# Altium integrated library National Semiconductor LDO.IntLib: 2675 symbols (part 10 of 65)
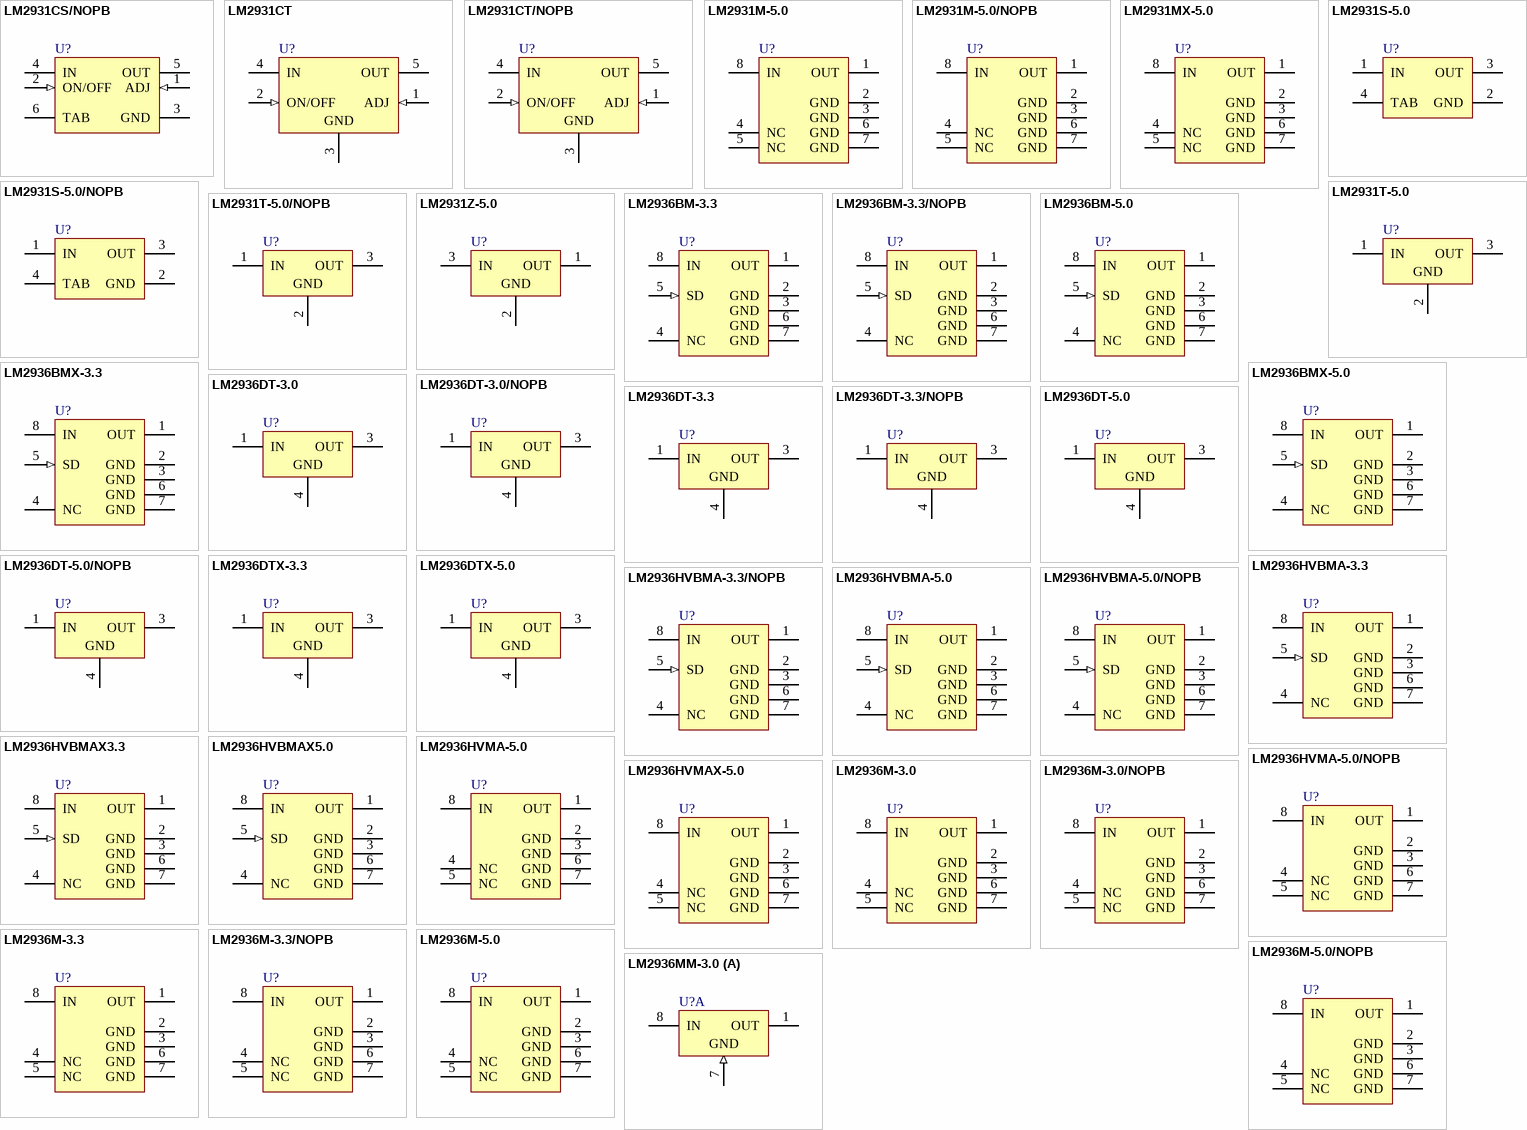
[diagram p76: symbols LM2931CS/NOPB to LM2936MM-3.0]

## LM2936M-3.0
designator U?
Ultra-Low Quiescent Current LDO Voltage Regulator, 8-pin Narrow SOIC; PartNumber: LM2936M-3.0; Manufacturer: National Semiconductor; PackageTopMarking: NSZXTT*LM293*6M-3; PowerWise: N; CompType: LDO IC; High-Reliability: Y; DatasheetVersion: Oct-2006; PackageVersion: revM, May-2009; PackageReference: M08A; PackageDescription: SOIC Narrow, 4.9 x 3.9 x 1.45mm, 8 Lead, 1.27mm Pitch; RoHS: N; PinCount: 8; Code_JEDEC: MS-012-AA; Code_IPC: SOIC127P600-8; ComponentLink1Description: Manufacturer URL; ComponentLink1URL: http://www.national.com/; ComponentLink2Description: LM2936 Datasheet; ComponentLink2URL: http://www.national.com/ds/LM/LM2936.pdf; ComponentLink3Description: LM2936 Web Page; ComponentLink3URL: http://www.national.com/pf/LM/LM2936.html; ComponentLink4Description: M08A Package Page; ComponentLink4URL: http://www.national.com/packaging/folders/m08a.html
footprint M08A_N (SOIC, 8-Leads, Body 4.9x3.9mm, Pitch 1.27mm, IPC Medium Density)
footprint M08A_L (SOIC, 8-Leads, Body 4.9x3.9mm, Pitch 1.27mm, IPC High Density)
footprint M08A_M (SOIC, 8-Leads, Body 4.9x3.9mm, Pitch 1.27mm, IPC Low Density)
pins: 1 OUT (power), 2 GND (power), 3 GND (power), 4 NC, 5 NC, 6 GND (power), 7 GND (power), 8 IN (power)

## LM2936M-3.0/NOPB
designator U?
Ultra-Low Quiescent Current LDO Voltage Regulator, 8-pin Narrow SOIC, Pb-Free; PartNumber: LM2936M-3.0/NOPB; Manufacturer: National Semiconductor; PackageTopMarking: NSZXTT*LM293*6M-3; PowerWise: N; CompType: LDO IC; High-Reliability: Y; DatasheetVersion: Oct-2006; PackageVersion: revM, May-2009; PackageReference: M08A; PackageDescription: SOIC Narrow, 4.9 x 3.9 x 1.45mm, 8 Lead, 1.27mm Pitch; RoHS: Y; PinCount: 8; Code_JEDEC: MS-012-AA; Code_IPC: SOIC127P600-8; ComponentLink1Description: Manufacturer URL; ComponentLink1URL: http://www.national.com/; ComponentLink2Description: LM2936 Datasheet; ComponentLink2URL: http://www.national.com/ds/LM/LM2936.pdf; ComponentLink3Description: LM2936 Web Page; ComponentLink3URL: http://www.national.com/pf/LM/LM2936.html; ComponentLink4Description: M08A Package Page; ComponentLink4URL: http://www.national.com/packaging/folders/m08a.html
footprint M08A_N (SOIC, 8-Leads, Body 4.9x3.9mm, Pitch 1.27mm, IPC Medium Density)
footprint M08A_L (SOIC, 8-Leads, Body 4.9x3.9mm, Pitch 1.27mm, IPC High Density)
footprint M08A_M (SOIC, 8-Leads, Body 4.9x3.9mm, Pitch 1.27mm, IPC Low Density)
pins: 1 OUT (power), 2 GND (power), 3 GND (power), 4 NC, 5 NC, 6 GND (power), 7 GND (power), 8 IN (power)

## LM2936M-3.3
designator U?
Ultra-Low Quiescent Current LDO Voltage Regulator, 8-pin Narrow SOIC; PartNumber: LM2936M-3.3; Manufacturer: National Semiconductor; PackageTopMarking: NSZXTT*LM293*6-3.3; PowerWise: N; CompType: LDO IC; High-Reliability: Y; DatasheetVersion: Oct-2006; PackageVersion: revM, May-2009; PackageReference: M08A; PackageDescription: SOIC Narrow, 4.9 x 3.9 x 1.45mm, 8 Lead, 1.27mm Pitch; RoHS: N; PinCount: 8; Code_JEDEC: MS-012-AA; Code_IPC: SOIC127P600-8; ComponentLink1Description: Manufacturer URL; ComponentLink1URL: http://www.national.com/; ComponentLink2Description: LM2936 Datasheet; ComponentLink2URL: http://www.national.com/ds/LM/LM2936.pdf; ComponentLink3Description: LM2936 Web Page; ComponentLink3URL: http://www.national.com/pf/LM/LM2936.html; ComponentLink4Description: M08A Package Page; ComponentLink4URL: http://www.national.com/packaging/folders/m08a.html
footprint M08A_N (SOIC, 8-Leads, Body 4.9x3.9mm, Pitch 1.27mm, IPC Medium Density)
footprint M08A_L (SOIC, 8-Leads, Body 4.9x3.9mm, Pitch 1.27mm, IPC High Density)
footprint M08A_M (SOIC, 8-Leads, Body 4.9x3.9mm, Pitch 1.27mm, IPC Low Density)
pins: 1 OUT (power), 2 GND (power), 3 GND (power), 4 NC, 5 NC, 6 GND (power), 7 GND (power), 8 IN (power)

## LM2936M-3.3/NOPB
designator U?
Ultra-Low Quiescent Current LDO Voltage Regulator, 8-pin Narrow SOIC, Pb-Free; PartNumber: LM2936M-3.3/NOPB; Manufacturer: National Semiconductor; PackageTopMarking: NSZXTT*LM293*6-3.3; PowerWise: N; CompType: LDO IC; High-Reliability: Y; DatasheetVersion: Oct-2006; PackageVersion: revM, May-2009; PackageReference: M08A; PackageDescription: SOIC Narrow, 4.9 x 3.9 x 1.45mm, 8 Lead, 1.27mm Pitch; RoHS: Y; PinCount: 8; Code_JEDEC: MS-012-AA; Code_IPC: SOIC127P600-8; ComponentLink1Description: Manufacturer URL; ComponentLink1URL: http://www.national.com/; ComponentLink2Description: LM2936 Datasheet; ComponentLink2URL: http://www.national.com/ds/LM/LM2936.pdf; ComponentLink3Description: LM2936 Web Page; ComponentLink3URL: http://www.national.com/pf/LM/LM2936.html; ComponentLink4Description: M08A Package Page; ComponentLink4URL: http://www.national.com/packaging/folders/m08a.html
footprint M08A_N (SOIC, 8-Leads, Body 4.9x3.9mm, Pitch 1.27mm, IPC Medium Density)
footprint M08A_L (SOIC, 8-Leads, Body 4.9x3.9mm, Pitch 1.27mm, IPC High Density)
footprint M08A_M (SOIC, 8-Leads, Body 4.9x3.9mm, Pitch 1.27mm, IPC Low Density)
pins: 1 OUT (power), 2 GND (power), 3 GND (power), 4 NC, 5 NC, 6 GND (power), 7 GND (power), 8 IN (power)

## LM2936M-5.0
designator U?
Ultra-Low Quiescent Current LDO Voltage Regulator, 8-pin Narrow SOIC; PartNumber: LM2936M-5.0; Manufacturer: National Semiconductor; PackageTopMarking: NSZXTT*LM293*6M-5; PowerWise: N; CompType: LDO IC; High-Reliability: Y; DatasheetVersion: Oct-2006; PackageVersion: revM, May-2009; PackageReference: M08A; PackageDescription: SOIC Narrow, 4.9 x 3.9 x 1.45mm, 8 Lead, 1.27mm Pitch; RoHS: N; PinCount: 8; Code_JEDEC: MS-012-AA; Code_IPC: SOIC127P600-8; ComponentLink1Description: Manufacturer URL; ComponentLink1URL: http://www.national.com/; ComponentLink2Description: LM2936 Datasheet; ComponentLink2URL: http://www.national.com/ds/LM/LM2936.pdf; ComponentLink3Description: LM2936 Web Page; ComponentLink3URL: http://www.national.com/pf/LM/LM2936.html; ComponentLink4Description: M08A Package Page; ComponentLink4URL: http://www.national.com/packaging/folders/m08a.html
footprint M08A_N (SOIC, 8-Leads, Body 4.9x3.9mm, Pitch 1.27mm, IPC Medium Density)
footprint M08A_L (SOIC, 8-Leads, Body 4.9x3.9mm, Pitch 1.27mm, IPC High Density)
footprint M08A_M (SOIC, 8-Leads, Body 4.9x3.9mm, Pitch 1.27mm, IPC Low Density)
pins: 1 OUT (power), 2 GND (power), 3 GND (power), 4 NC, 5 NC, 6 GND (power), 7 GND (power), 8 IN (power)

## LM2936M-5.0/NOPB
designator U?
Ultra-Low Quiescent Current LDO Voltage Regulator, 8-pin Narrow SOIC, Pb-Free; PartNumber: LM2936M-5.0/NOPB; Manufacturer: National Semiconductor; PackageTopMarking: NSZXTT*LM293*6M-5; PowerWise: N; CompType: LDO IC; High-Reliability: Y; DatasheetVersion: Oct-2006; PackageVersion: revM, May-2009; PackageReference: M08A; PackageDescription: SOIC Narrow, 4.9 x 3.9 x 1.45mm, 8 Lead, 1.27mm Pitch; RoHS: Y; PinCount: 8; Code_JEDEC: MS-012-AA; Code_IPC: SOIC127P600-8; ComponentLink1Description: Manufacturer URL; ComponentLink1URL: http://www.national.com/; ComponentLink2Description: LM2936 Datasheet; ComponentLink2URL: http://www.national.com/ds/LM/LM2936.pdf; ComponentLink3Description: LM2936 Web Page; ComponentLink3URL: http://www.national.com/pf/LM/LM2936.html; ComponentLink4Description: M08A Package Page; ComponentLink4URL: http://www.national.com/packaging/folders/m08a.html
footprint M08A_N (SOIC, 8-Leads, Body 4.9x3.9mm, Pitch 1.27mm, IPC Medium Density)
footprint M08A_L (SOIC, 8-Leads, Body 4.9x3.9mm, Pitch 1.27mm, IPC High Density)
footprint M08A_M (SOIC, 8-Leads, Body 4.9x3.9mm, Pitch 1.27mm, IPC Low Density)
pins: 1 OUT (power), 2 GND (power), 3 GND (power), 4 NC, 5 NC, 6 GND (power), 7 GND (power), 8 IN (power)

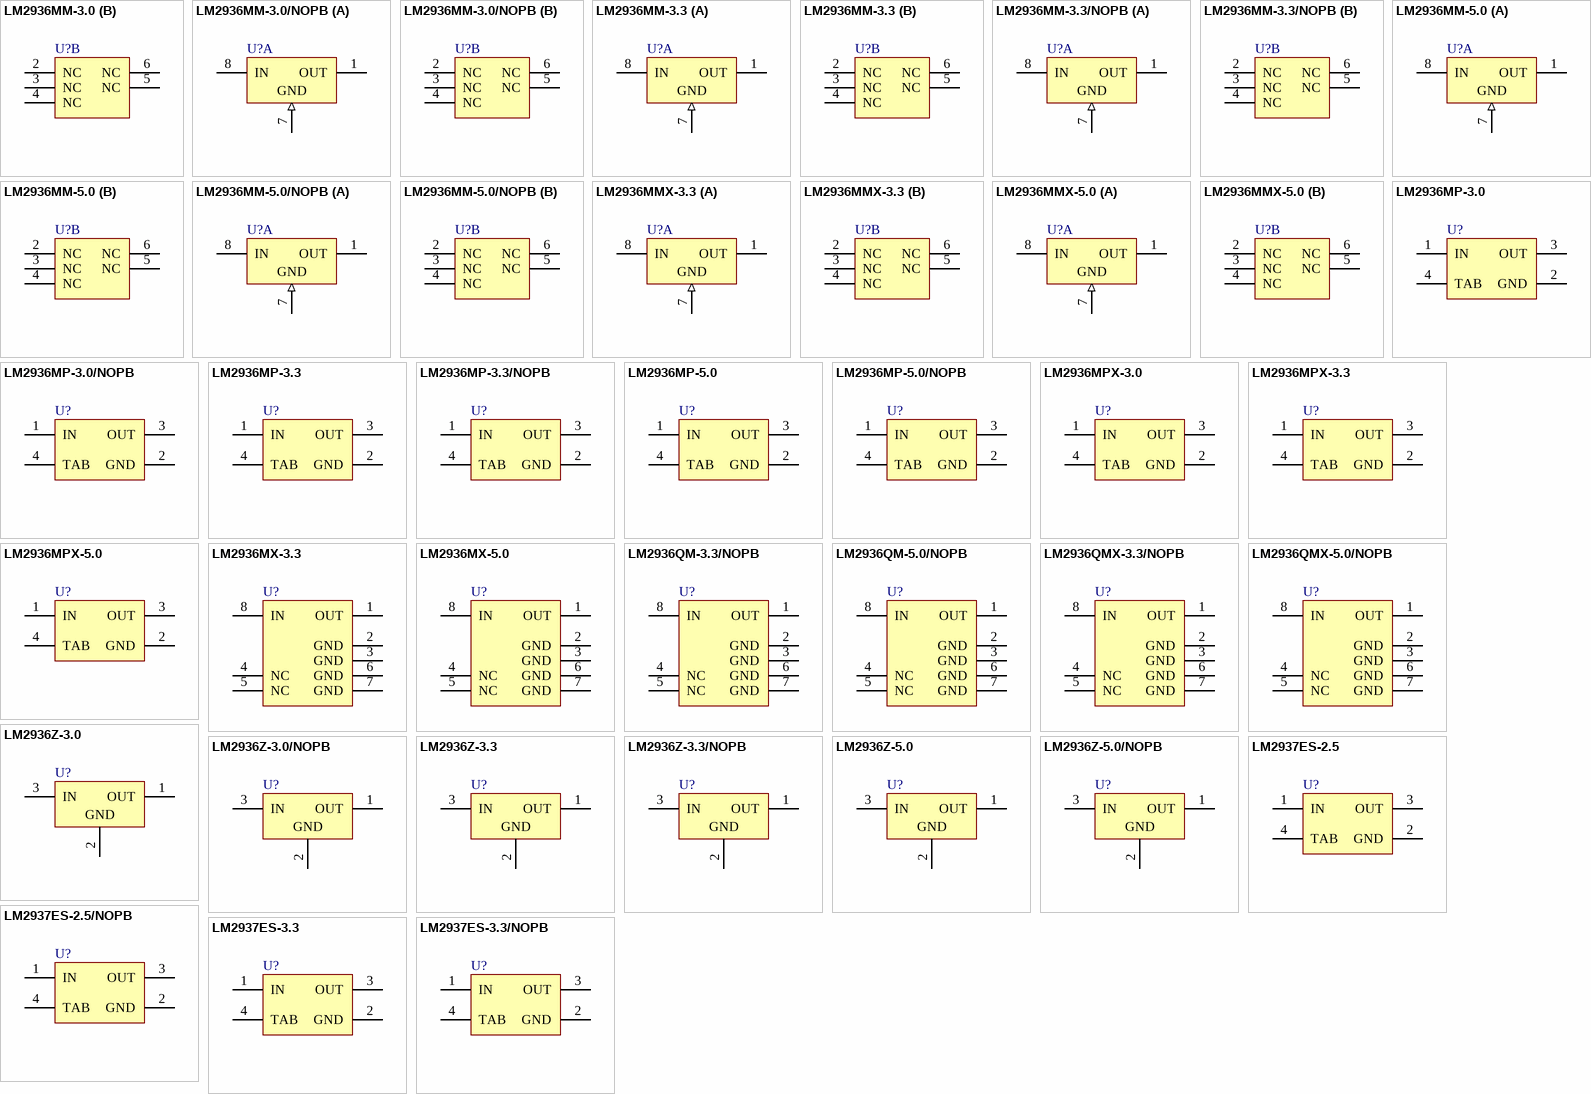
[diagram p10: symbols LM2936MM-3.0 to LM2937ES-3.3/NOPB]

## LM2936MM-3.0
designator U?
Ultra-Low Quiescent Current LDO Voltage Regulator, 8-pin Mini SOIC; PartNumber: LM2936MM-3.0; Manufacturer: National Semiconductor; PackageTopMarking: ZXTT*KBC; PowerWise: N; CompType: LDO IC; High-Reliability: Y; DatasheetVersion: Oct-2006; PackageVersion: revF, Apr-2008; PackageReference: MUA08A; PackageDescription: MINI SOIC, .118 x .118 x .034in, 8 Lead, .0256in Pitch; RoHS: N; PinCount: 8; Code_JEDEC: MO-187-AA; ComponentLink1Description: Manufacturer URL; ComponentLink1URL: http://www.national.com/; ComponentLink2Description: LM2936 Datasheet; ComponentLink2URL: http://www.national.com/ds/LM/LM2936.pdf; ComponentLink3Description: LM2936 Web Page; ComponentLink3URL: http://www.national.com/pf/LM/LM2936.html; ComponentLink4Description: MUA08A Package Page; ComponentLink4URL: http://www.national.com/packaging/folders/mua08a.html
footprint MUA08A_N (TSOP, 8-Leads, Body 3x3mm, Pitch 0.65mm, IPC Medium Density)
footprint MUA08A_L (TSOP, 8-Leads, Body 3x3mm, Pitch 0.65mm, IPC High Density)
footprint MUA08A_M (TSOP, 8-Leads, Body 3x3mm, Pitch 0.65mm, IPC Low Density)
part A pins: 1 OUT (power), 7 ADJ (in), 8 IN (power)
part B pins: 2 NC, 3 NC, 4 NC, 5 NC, 6 NC
part A text: GND

## LM2936MM-3.0/NOPB
designator U?
Ultra-Low Quiescent Current LDO Voltage Regulator, 8-pin Mini SOIC, Pb-Free; PartNumber: LM2936MM-3.0/NOPB; Manufacturer: National Semiconductor; PackageTopMarking: ZXTT*KBC; PowerWise: N; CompType: LDO IC; High-Reliability: Y; DatasheetVersion: Oct-2006; PackageVersion: revF, Apr-2008; PackageReference: MUA08A; PackageDescription: MINI SOIC, .118 x .118 x .034in, 8 Lead, .0256in Pitch; RoHS: Y; PinCount: 8; Code_JEDEC: MO-187-AA; ComponentLink1Description: Manufacturer URL; ComponentLink1URL: http://www.national.com/; ComponentLink2Description: LM2936 Datasheet; ComponentLink2URL: http://www.national.com/ds/LM/LM2936.pdf; ComponentLink3Description: LM2936 Web Page; ComponentLink3URL: http://www.national.com/pf/LM/LM2936.html; ComponentLink4Description: MUA08A Package Page; ComponentLink4URL: http://www.national.com/packaging/folders/mua08a.html
footprint MUA08A_N (TSOP, 8-Leads, Body 3x3mm, Pitch 0.65mm, IPC Medium Density)
footprint MUA08A_L (TSOP, 8-Leads, Body 3x3mm, Pitch 0.65mm, IPC High Density)
footprint MUA08A_M (TSOP, 8-Leads, Body 3x3mm, Pitch 0.65mm, IPC Low Density)
part A pins: 1 OUT (power), 7 ADJ (in), 8 IN (power)
part B pins: 2 NC, 3 NC, 4 NC, 5 NC, 6 NC
part A text: GND

## LM2936MM-3.3
designator U?
Ultra-Low Quiescent Current LDO Voltage Regulator, 8-pin Mini SOIC; PartNumber: LM2936MM-3.3; Manufacturer: National Semiconductor; PackageTopMarking: ZXTT*KBB; PowerWise: N; CompType: LDO IC; High-Reliability: Y; DatasheetVersion: Oct-2006; PackageVersion: revF, Apr-2008; PackageReference: MUA08A; PackageDescription: MINI SOIC, .118 x .118 x .034in, 8 Lead, .0256in Pitch; RoHS: N; PinCount: 8; Code_JEDEC: MO-187-AA; ComponentLink1Description: Manufacturer URL; ComponentLink1URL: http://www.national.com/; ComponentLink2Description: LM2936 Datasheet; ComponentLink2URL: http://www.national.com/ds/LM/LM2936.pdf; ComponentLink3Description: LM2936 Web Page; ComponentLink3URL: http://www.national.com/pf/LM/LM2936.html; ComponentLink4Description: MUA08A Package Page; ComponentLink4URL: http://www.national.com/packaging/folders/mua08a.html
footprint MUA08A_N (TSOP, 8-Leads, Body 3x3mm, Pitch 0.65mm, IPC Medium Density)
footprint MUA08A_L (TSOP, 8-Leads, Body 3x3mm, Pitch 0.65mm, IPC High Density)
footprint MUA08A_M (TSOP, 8-Leads, Body 3x3mm, Pitch 0.65mm, IPC Low Density)
part A pins: 1 OUT (power), 7 ADJ (in), 8 IN (power)
part B pins: 2 NC, 3 NC, 4 NC, 5 NC, 6 NC
part A text: GND

## LM2936MM-3.3/NOPB
designator U?
Ultra-Low Quiescent Current LDO Voltage Regulator, 8-pin Mini SOIC, Pb-Free; PartNumber: LM2936MM-3.3/NOPB; Manufacturer: National Semiconductor; PackageTopMarking: ZXTT*KBB; PowerWise: N; CompType: LDO IC; High-Reliability: Y; DatasheetVersion: Oct-2006; PackageVersion: revF, Apr-2008; PackageReference: MUA08A; PackageDescription: MINI SOIC, .118 x .118 x .034in, 8 Lead, .0256in Pitch; RoHS: Y; PinCount: 8; Code_JEDEC: MO-187-AA; ComponentLink1Description: Manufacturer URL; ComponentLink1URL: http://www.national.com/; ComponentLink2Description: LM2936 Datasheet; ComponentLink2URL: http://www.national.com/ds/LM/LM2936.pdf; ComponentLink3Description: LM2936 Web Page; ComponentLink3URL: http://www.national.com/pf/LM/LM2936.html; ComponentLink4Description: MUA08A Package Page; ComponentLink4URL: http://www.national.com/packaging/folders/mua08a.html
footprint MUA08A_N (TSOP, 8-Leads, Body 3x3mm, Pitch 0.65mm, IPC Medium Density)
footprint MUA08A_L (TSOP, 8-Leads, Body 3x3mm, Pitch 0.65mm, IPC High Density)
footprint MUA08A_M (TSOP, 8-Leads, Body 3x3mm, Pitch 0.65mm, IPC Low Density)
part A pins: 1 OUT (power), 7 ADJ (in), 8 IN (power)
part B pins: 2 NC, 3 NC, 4 NC, 5 NC, 6 NC
part A text: GND

## LM2936MM-5.0
designator U?
Ultra-Low Quiescent Current LDO Voltage Regulator, 8-pin Mini SOIC; PartNumber: LM2936MM-5.0; Manufacturer: National Semiconductor; PackageTopMarking: ZXTT*KBA; PowerWise: N; CompType: LDO IC; High-Reliability: Y; DatasheetVersion: Oct-2006; PackageVersion: revF, Apr-2008; PackageReference: MUA08A; PackageDescription: MINI SOIC, .118 x .118 x .034in, 8 Lead, .0256in Pitch; RoHS: N; PinCount: 8; Code_JEDEC: MO-187-AA; ComponentLink1Description: Manufacturer URL; ComponentLink1URL: http://www.national.com/; ComponentLink2Description: LM2936 Datasheet; ComponentLink2URL: http://www.national.com/ds/LM/LM2936.pdf; ComponentLink3Description: LM2936 Web Page; ComponentLink3URL: http://www.national.com/pf/LM/LM2936.html; ComponentLink4Description: MUA08A Package Page; ComponentLink4URL: http://www.national.com/packaging/folders/mua08a.html
footprint MUA08A_N (TSOP, 8-Leads, Body 3x3mm, Pitch 0.65mm, IPC Medium Density)
footprint MUA08A_L (TSOP, 8-Leads, Body 3x3mm, Pitch 0.65mm, IPC High Density)
footprint MUA08A_M (TSOP, 8-Leads, Body 3x3mm, Pitch 0.65mm, IPC Low Density)
part A pins: 1 OUT (power), 7 ADJ (in), 8 IN (power)
part B pins: 2 NC, 3 NC, 4 NC, 5 NC, 6 NC
part A text: GND

## LM2936MM-5.0/NOPB
designator U?
Ultra-Low Quiescent Current LDO Voltage Regulator, 8-pin Mini SOIC, Pb-Free; PartNumber: LM2936MM-5.0/NOPB; Manufacturer: National Semiconductor; PackageTopMarking: ZXTT*KBA; PowerWise: N; CompType: LDO IC; High-Reliability: Y; DatasheetVersion: Oct-2006; PackageVersion: revF, Apr-2008; PackageReference: MUA08A; PackageDescription: MINI SOIC, .118 x .118 x .034in, 8 Lead, .0256in Pitch; RoHS: Y; PinCount: 8; Code_JEDEC: MO-187-AA; ComponentLink1Description: Manufacturer URL; ComponentLink1URL: http://www.national.com/; ComponentLink2Description: LM2936 Datasheet; ComponentLink2URL: http://www.national.com/ds/LM/LM2936.pdf; ComponentLink3Description: LM2936 Web Page; ComponentLink3URL: http://www.national.com/pf/LM/LM2936.html; ComponentLink4Description: MUA08A Package Page; ComponentLink4URL: http://www.national.com/packaging/folders/mua08a.html
footprint MUA08A_N (TSOP, 8-Leads, Body 3x3mm, Pitch 0.65mm, IPC Medium Density)
footprint MUA08A_L (TSOP, 8-Leads, Body 3x3mm, Pitch 0.65mm, IPC High Density)
footprint MUA08A_M (TSOP, 8-Leads, Body 3x3mm, Pitch 0.65mm, IPC Low Density)
part A pins: 1 OUT (power), 7 ADJ (in), 8 IN (power)
part B pins: 2 NC, 3 NC, 4 NC, 5 NC, 6 NC
part A text: GND

## LM2936MMX-3.3
designator U?
Ultra-Low Quiescent Current LDO Voltage Regulator, 8-pin Mini SOIC; PartNumber: LM2936MMX-3.3; Manufacturer: National Semiconductor; PackageTopMarking: ZXTT*KBB; PowerWise: N; CompType: LDO IC; High-Reliability: Y; DatasheetVersion: Oct-2006; PackageVersion: revF, Apr-2008; PackageReference: MUA08A; PackageDescription: MINI SOIC, .118 x .118 x .034in, 8 Lead, .0256in Pitch; RoHS: N; PinCount: 8; Code_JEDEC: MO-187-AA; ComponentLink1Description: Manufacturer URL; ComponentLink1URL: http://www.national.com/; ComponentLink2Description: LM2936 Datasheet; ComponentLink2URL: http://www.national.com/ds/LM/LM2936.pdf; ComponentLink3Description: LM2936 Web Page; ComponentLink3URL: http://www.national.com/pf/LM/LM2936.html; ComponentLink4Description: MUA08A Package Page; ComponentLink4URL: http://www.national.com/packaging/folders/mua08a.html
footprint MUA08A_N (TSOP, 8-Leads, Body 3x3mm, Pitch 0.65mm, IPC Medium Density)
footprint MUA08A_L (TSOP, 8-Leads, Body 3x3mm, Pitch 0.65mm, IPC High Density)
footprint MUA08A_M (TSOP, 8-Leads, Body 3x3mm, Pitch 0.65mm, IPC Low Density)
part A pins: 1 OUT (power), 7 ADJ (in), 8 IN (power)
part B pins: 2 NC, 3 NC, 4 NC, 5 NC, 6 NC
part A text: GND

## LM2936MMX-5.0
designator U?
Ultra-Low Quiescent Current LDO Voltage Regulator, 8-pin Mini SOIC; PartNumber: LM2936MMX-5.0; Manufacturer: National Semiconductor; PackageTopMarking: ZXTT*KBA; PowerWise: N; CompType: LDO IC; High-Reliability: Y; DatasheetVersion: Oct-2006; PackageVersion: revF, Apr-2008; PackageReference: MUA08A; PackageDescription: MINI SOIC, .118 x .118 x .034in, 8 Lead, .0256in Pitch; RoHS: N; PinCount: 8; Code_JEDEC: MO-187-AA; ComponentLink1Description: Manufacturer URL; ComponentLink1URL: http://www.national.com/; ComponentLink2Description: LM2936 Datasheet; ComponentLink2URL: http://www.national.com/ds/LM/LM2936.pdf; ComponentLink3Description: LM2936 Web Page; ComponentLink3URL: http://www.national.com/pf/LM/LM2936.html; ComponentLink4Description: MUA08A Package Page; ComponentLink4URL: http://www.national.com/packaging/folders/mua08a.html
footprint MUA08A_N (TSOP, 8-Leads, Body 3x3mm, Pitch 0.65mm, IPC Medium Density)
footprint MUA08A_L (TSOP, 8-Leads, Body 3x3mm, Pitch 0.65mm, IPC High Density)
footprint MUA08A_M (TSOP, 8-Leads, Body 3x3mm, Pitch 0.65mm, IPC Low Density)
part A pins: 1 OUT (power), 7 ADJ (in), 8 IN (power)
part B pins: 2 NC, 3 NC, 4 NC, 5 NC, 6 NC
part A text: GND

## LM2936MP-3.0
designator U?
Ultra-Low Quiescent Current LDO Voltage Regulator, 4-pin SOT-223; PartNumber: LM2936MP-3.0; Manufacturer: National Semiconductor; PackageTopMarking: XYTT*KACA; PowerWise: N; CompType: LDO IC; High-Reliability: Y; DatasheetVersion: Oct-2006; PackageVersion: revB, Apr-2003; PackageReference: MP04A; PackageDescription: Molded SOT-223, 6.50 x 3.56 x 1.6mm Body, 4 Lead, 2.3mm Pitch; RoHS: N; PinCount: 4; Code_JEDEC: TO-261-AA; Code_IPC: SOT223-4; ComponentLink1Description: Manufacturer URL; ComponentLink1URL: http://www.national.com/; ComponentLink2Description: LM2936 Datasheet; ComponentLink2URL: http://www.national.com/ds/LM/LM2936.pdf; ComponentLink3Description: LM2936 Web Page; ComponentLink3URL: http://www.national.com/pf/LM/LM2936.html; ComponentLink4Description: MP04A Package Page; ComponentLink4URL: http://www.national.com/packaging/folders/mp04a.html
footprint MP04A_N (SOT223, 4-Leads, Body 6.5x3.5mm, Pitch 2.3mm, Lead Span 7mm, IPC Medium Density)
footprint MP04A_L (SOT223, 4-Leads, Body 6.5x3.5mm, Pitch 2.3mm, Lead Span 7mm, IPC High Density)
footprint MP04A_M (SOT223, 4-Leads, Body 6.5x3.5mm, Pitch 2.3mm, Lead Span 7mm, IPC Low Density)
pins: 1 IN (power), 2 GND (power), 3 OUT (power), 4 TAB (power)

## LM2936MP-3.0/NOPB
designator U?
Ultra-Low Quiescent Current LDO Voltage Regulator, 4-pin SOT-223, Pb-Free; PartNumber: LM2936MP-3.0/NOPB; Manufacturer: National Semiconductor; PackageTopMarking: XYTT*KACA; PowerWise: N; CompType: LDO IC; High-Reliability: Y; DatasheetVersion: Oct-2006; PackageVersion: revB, Apr-2003; PackageReference: MP04A; PackageDescription: Molded SOT-223, 6.50 x 3.56 x 1.6mm Body, 4 Lead, 2.3mm Pitch; RoHS: Y; PinCount: 4; Code_JEDEC: TO-261-AA; Code_IPC: SOT223-4; ComponentLink1Description: Manufacturer URL; ComponentLink1URL: http://www.national.com/; ComponentLink2Description: LM2936 Datasheet; ComponentLink2URL: http://www.national.com/ds/LM/LM2936.pdf; ComponentLink3Description: LM2936 Web Page; ComponentLink3URL: http://www.national.com/pf/LM/LM2936.html; ComponentLink4Description: MP04A Package Page; ComponentLink4URL: http://www.national.com/packaging/folders/mp04a.html
footprint MP04A_N (SOT223, 4-Leads, Body 6.5x3.5mm, Pitch 2.3mm, Lead Span 7mm, IPC Medium Density)
footprint MP04A_L (SOT223, 4-Leads, Body 6.5x3.5mm, Pitch 2.3mm, Lead Span 7mm, IPC High Density)
footprint MP04A_M (SOT223, 4-Leads, Body 6.5x3.5mm, Pitch 2.3mm, Lead Span 7mm, IPC Low Density)
pins: 1 IN (power), 2 GND (power), 3 OUT (power), 4 TAB (power)

## LM2936MP-3.3
designator U?
Ultra-Low Quiescent Current LDO Voltage Regulator, 4-pin SOT-223; PartNumber: LM2936MP-3.3; Manufacturer: National Semiconductor; PackageTopMarking: XYTT*KABA; PowerWise: N; CompType: LDO IC; High-Reliability: Y; DatasheetVersion: Oct-2006; PackageVersion: revB, Apr-2003; PackageReference: MP04A; PackageDescription: Molded SOT-223, 6.50 x 3.56 x 1.6mm Body, 4 Lead, 2.3mm Pitch; RoHS: N; PinCount: 4; Code_JEDEC: TO-261-AA; Code_IPC: SOT223-4; ComponentLink1Description: Manufacturer URL; ComponentLink1URL: http://www.national.com/; ComponentLink2Description: LM2936 Datasheet; ComponentLink2URL: http://www.national.com/ds/LM/LM2936.pdf; ComponentLink3Description: LM2936 Web Page; ComponentLink3URL: http://www.national.com/pf/LM/LM2936.html; ComponentLink4Description: MP04A Package Page; ComponentLink4URL: http://www.national.com/packaging/folders/mp04a.html
footprint MP04A_N (SOT223, 4-Leads, Body 6.5x3.5mm, Pitch 2.3mm, Lead Span 7mm, IPC Medium Density)
footprint MP04A_L (SOT223, 4-Leads, Body 6.5x3.5mm, Pitch 2.3mm, Lead Span 7mm, IPC High Density)
footprint MP04A_M (SOT223, 4-Leads, Body 6.5x3.5mm, Pitch 2.3mm, Lead Span 7mm, IPC Low Density)
pins: 1 IN (power), 2 GND (power), 3 OUT (power), 4 TAB (power)

## LM2936MP-3.3/NOPB
designator U?
Ultra-Low Quiescent Current LDO Voltage Regulator, 4-pin SOT-223, Pb-Free; PartNumber: LM2936MP-3.3/NOPB; Manufacturer: National Semiconductor; PackageTopMarking: XYTT*KABA; PowerWise: N; CompType: LDO IC; High-Reliability: Y; DatasheetVersion: Oct-2006; PackageVersion: revB, Apr-2003; PackageReference: MP04A; PackageDescription: Molded SOT-223, 6.50 x 3.56 x 1.6mm Body, 4 Lead, 2.3mm Pitch; RoHS: Y; PinCount: 4; Code_JEDEC: TO-261-AA; Code_IPC: SOT223-4; ComponentLink1Description: Manufacturer URL; ComponentLink1URL: http://www.national.com/; ComponentLink2Description: LM2936 Datasheet; ComponentLink2URL: http://www.national.com/ds/LM/LM2936.pdf; ComponentLink3Description: LM2936 Web Page; ComponentLink3URL: http://www.national.com/pf/LM/LM2936.html; ComponentLink4Description: MP04A Package Page; ComponentLink4URL: http://www.national.com/packaging/folders/mp04a.html
footprint MP04A_N (SOT223, 4-Leads, Body 6.5x3.5mm, Pitch 2.3mm, Lead Span 7mm, IPC Medium Density)
footprint MP04A_L (SOT223, 4-Leads, Body 6.5x3.5mm, Pitch 2.3mm, Lead Span 7mm, IPC High Density)
footprint MP04A_M (SOT223, 4-Leads, Body 6.5x3.5mm, Pitch 2.3mm, Lead Span 7mm, IPC Low Density)
pins: 1 IN (power), 2 GND (power), 3 OUT (power), 4 TAB (power)

## LM2936MP-5.0
designator U?
Ultra-Low Quiescent Current LDO Voltage Regulator, 4-pin SOT-223; PartNumber: LM2936MP-5.0; Manufacturer: National Semiconductor; PackageTopMarking: XYTT*KAAA; PowerWise: N; CompType: LDO IC; High-Reliability: Y; DatasheetVersion: Oct-2006; PackageVersion: revB, Apr-2003; PackageReference: MP04A; PackageDescription: Molded SOT-223, 6.50 x 3.56 x 1.6mm Body, 4 Lead, 2.3mm Pitch; RoHS: N; PinCount: 4; Code_JEDEC: TO-261-AA; Code_IPC: SOT223-4; ComponentLink1Description: Manufacturer URL; ComponentLink1URL: http://www.national.com/; ComponentLink2Description: LM2936 Datasheet; ComponentLink2URL: http://www.national.com/ds/LM/LM2936.pdf; ComponentLink3Description: LM2936 Web Page; ComponentLink3URL: http://www.national.com/pf/LM/LM2936.html; ComponentLink4Description: MP04A Package Page; ComponentLink4URL: http://www.national.com/packaging/folders/mp04a.html
footprint MP04A_N (SOT223, 4-Leads, Body 6.5x3.5mm, Pitch 2.3mm, Lead Span 7mm, IPC Medium Density)
footprint MP04A_L (SOT223, 4-Leads, Body 6.5x3.5mm, Pitch 2.3mm, Lead Span 7mm, IPC High Density)
footprint MP04A_M (SOT223, 4-Leads, Body 6.5x3.5mm, Pitch 2.3mm, Lead Span 7mm, IPC Low Density)
pins: 1 IN (power), 2 GND (power), 3 OUT (power), 4 TAB (power)

## LM2936MP-5.0/NOPB
designator U?
Ultra-Low Quiescent Current LDO Voltage Regulator, 4-pin SOT-223, Pb-Free; PartNumber: LM2936MP-5.0/NOPB; Manufacturer: National Semiconductor; PackageTopMarking: XYTT*KAAA; PowerWise: N; CompType: LDO IC; High-Reliability: Y; DatasheetVersion: Oct-2006; PackageVersion: revB, Apr-2003; PackageReference: MP04A; PackageDescription: Molded SOT-223, 6.50 x 3.56 x 1.6mm Body, 4 Lead, 2.3mm Pitch; RoHS: Y; PinCount: 4; Code_JEDEC: TO-261-AA; Code_IPC: SOT223-4; ComponentLink1Description: Manufacturer URL; ComponentLink1URL: http://www.national.com/; ComponentLink2Description: LM2936 Datasheet; ComponentLink2URL: http://www.national.com/ds/LM/LM2936.pdf; ComponentLink3Description: LM2936 Web Page; ComponentLink3URL: http://www.national.com/pf/LM/LM2936.html; ComponentLink4Description: MP04A Package Page; ComponentLink4URL: http://www.national.com/packaging/folders/mp04a.html
footprint MP04A_N (SOT223, 4-Leads, Body 6.5x3.5mm, Pitch 2.3mm, Lead Span 7mm, IPC Medium Density)
footprint MP04A_L (SOT223, 4-Leads, Body 6.5x3.5mm, Pitch 2.3mm, Lead Span 7mm, IPC High Density)
footprint MP04A_M (SOT223, 4-Leads, Body 6.5x3.5mm, Pitch 2.3mm, Lead Span 7mm, IPC Low Density)
pins: 1 IN (power), 2 GND (power), 3 OUT (power), 4 TAB (power)

## LM2936MPX-3.0
designator U?
Ultra-Low Quiescent Current LDO Voltage Regulator, 4-pin SOT-223; PartNumber: LM2936MPX-3.0; Manufacturer: National Semiconductor; PackageTopMarking: XYTT*KACA; PowerWise: N; CompType: LDO IC; High-Reliability: Y; DatasheetVersion: Oct-2006; PackageVersion: revB, Apr-2003; PackageReference: MP04A; PackageDescription: Molded SOT-223, 6.50 x 3.56 x 1.6mm Body, 4 Lead, 2.3mm Pitch; RoHS: N; PinCount: 4; Code_JEDEC: TO-261-AA; Code_IPC: SOT223-4; ComponentLink1Description: Manufacturer URL; ComponentLink1URL: http://www.national.com/; ComponentLink2Description: LM2936 Datasheet; ComponentLink2URL: http://www.national.com/ds/LM/LM2936.pdf; ComponentLink3Description: LM2936 Web Page; ComponentLink3URL: http://www.national.com/pf/LM/LM2936.html; ComponentLink4Description: MP04A Package Page; ComponentLink4URL: http://www.national.com/packaging/folders/mp04a.html
footprint MP04A_N (SOT223, 4-Leads, Body 6.5x3.5mm, Pitch 2.3mm, Lead Span 7mm, IPC Medium Density)
footprint MP04A_L (SOT223, 4-Leads, Body 6.5x3.5mm, Pitch 2.3mm, Lead Span 7mm, IPC High Density)
footprint MP04A_M (SOT223, 4-Leads, Body 6.5x3.5mm, Pitch 2.3mm, Lead Span 7mm, IPC Low Density)
pins: 1 IN (power), 2 GND (power), 3 OUT (power), 4 TAB (power)

## LM2936MPX-3.3
designator U?
Ultra-Low Quiescent Current LDO Voltage Regulator, 4-pin SOT-223; PartNumber: LM2936MPX-3.3; Manufacturer: National Semiconductor; PackageTopMarking: XYTT*KABA; PowerWise: N; CompType: LDO IC; High-Reliability: Y; DatasheetVersion: Oct-2006; PackageVersion: revB, Apr-2003; PackageReference: MP04A; PackageDescription: Molded SOT-223, 6.50 x 3.56 x 1.6mm Body, 4 Lead, 2.3mm Pitch; RoHS: N; PinCount: 4; Code_JEDEC: TO-261-AA; Code_IPC: SOT223-4; ComponentLink1Description: Manufacturer URL; ComponentLink1URL: http://www.national.com/; ComponentLink2Description: LM2936 Datasheet; ComponentLink2URL: http://www.national.com/ds/LM/LM2936.pdf; ComponentLink3Description: LM2936 Web Page; ComponentLink3URL: http://www.national.com/pf/LM/LM2936.html; ComponentLink4Description: MP04A Package Page; ComponentLink4URL: http://www.national.com/packaging/folders/mp04a.html
footprint MP04A_N (SOT223, 4-Leads, Body 6.5x3.5mm, Pitch 2.3mm, Lead Span 7mm, IPC Medium Density)
footprint MP04A_L (SOT223, 4-Leads, Body 6.5x3.5mm, Pitch 2.3mm, Lead Span 7mm, IPC High Density)
footprint MP04A_M (SOT223, 4-Leads, Body 6.5x3.5mm, Pitch 2.3mm, Lead Span 7mm, IPC Low Density)
pins: 1 IN (power), 2 GND (power), 3 OUT (power), 4 TAB (power)

## LM2936MPX-5.0
designator U?
Ultra-Low Quiescent Current LDO Voltage Regulator, 4-pin SOT-223; PartNumber: LM2936MPX-5.0; Manufacturer: National Semiconductor; PackageTopMarking: XYTT*KAAA; PowerWise: N; CompType: LDO IC; High-Reliability: Y; DatasheetVersion: Oct-2006; PackageVersion: revB, Apr-2003; PackageReference: MP04A; PackageDescription: Molded SOT-223, 6.50 x 3.56 x 1.6mm Body, 4 Lead, 2.3mm Pitch; RoHS: N; PinCount: 4; Code_JEDEC: TO-261-AA; Code_IPC: SOT223-4; ComponentLink1Description: Manufacturer URL; ComponentLink1URL: http://www.national.com/; ComponentLink2Description: LM2936 Datasheet; ComponentLink2URL: http://www.national.com/ds/LM/LM2936.pdf; ComponentLink3Description: LM2936 Web Page; ComponentLink3URL: http://www.national.com/pf/LM/LM2936.html; ComponentLink4Description: MP04A Package Page; ComponentLink4URL: http://www.national.com/packaging/folders/mp04a.html
footprint MP04A_N (SOT223, 4-Leads, Body 6.5x3.5mm, Pitch 2.3mm, Lead Span 7mm, IPC Medium Density)
footprint MP04A_L (SOT223, 4-Leads, Body 6.5x3.5mm, Pitch 2.3mm, Lead Span 7mm, IPC High Density)
footprint MP04A_M (SOT223, 4-Leads, Body 6.5x3.5mm, Pitch 2.3mm, Lead Span 7mm, IPC Low Density)
pins: 1 IN (power), 2 GND (power), 3 OUT (power), 4 TAB (power)

## LM2936MX-3.3
designator U?
Ultra-Low Quiescent Current LDO Voltage Regulator, 8-pin Narrow SOIC; PartNumber: LM2936MX-3.3; Manufacturer: National Semiconductor; PackageTopMarking: NSZXTT*LM293*6-3.3; PowerWise: N; CompType: LDO IC; High-Reliability: Y; DatasheetVersion: Oct-2006; PackageVersion: revM, May-2009; PackageReference: M08A; PackageDescription: SOIC Narrow, 4.9 x 3.9 x 1.45mm, 8 Lead, 1.27mm Pitch; RoHS: N; PinCount: 8; Code_JEDEC: MS-012-AA; Code_IPC: SOIC127P600-8; ComponentLink1Description: Manufacturer URL; ComponentLink1URL: http://www.national.com/; ComponentLink2Description: LM2936 Datasheet; ComponentLink2URL: http://www.national.com/ds/LM/LM2936.pdf; ComponentLink3Description: LM2936 Web Page; ComponentLink3URL: http://www.national.com/pf/LM/LM2936.html; ComponentLink4Description: M08A Package Page; ComponentLink4URL: http://www.national.com/packaging/folders/m08a.html
footprint M08A_N (SOIC, 8-Leads, Body 4.9x3.9mm, Pitch 1.27mm, IPC Medium Density)
footprint M08A_L (SOIC, 8-Leads, Body 4.9x3.9mm, Pitch 1.27mm, IPC High Density)
footprint M08A_M (SOIC, 8-Leads, Body 4.9x3.9mm, Pitch 1.27mm, IPC Low Density)
pins: 1 OUT (power), 2 GND (power), 3 GND (power), 4 NC, 5 NC, 6 GND (power), 7 GND (power), 8 IN (power)

## LM2936MX-5.0
designator U?
Ultra-Low Quiescent Current LDO Voltage Regulator, 8-pin Narrow SOIC; PartNumber: LM2936MX-5.0; Manufacturer: National Semiconductor; PackageTopMarking: NSZXTT*LM293*6M-5; PowerWise: N; CompType: LDO IC; High-Reliability: Y; DatasheetVersion: Oct-2006; PackageVersion: revM, May-2009; PackageReference: M08A; PackageDescription: SOIC Narrow, 4.9 x 3.9 x 1.45mm, 8 Lead, 1.27mm Pitch; RoHS: N; PinCount: 8; Code_JEDEC: MS-012-AA; Code_IPC: SOIC127P600-8; ComponentLink1Description: Manufacturer URL; ComponentLink1URL: http://www.national.com/; ComponentLink2Description: LM2936 Datasheet; ComponentLink2URL: http://www.national.com/ds/LM/LM2936.pdf; ComponentLink3Description: LM2936 Web Page; ComponentLink3URL: http://www.national.com/pf/LM/LM2936.html; ComponentLink4Description: M08A Package Page; ComponentLink4URL: http://www.national.com/packaging/folders/m08a.html
footprint M08A_N (SOIC, 8-Leads, Body 4.9x3.9mm, Pitch 1.27mm, IPC Medium Density)
footprint M08A_L (SOIC, 8-Leads, Body 4.9x3.9mm, Pitch 1.27mm, IPC High Density)
footprint M08A_M (SOIC, 8-Leads, Body 4.9x3.9mm, Pitch 1.27mm, IPC Low Density)
pins: 1 OUT (power), 2 GND (power), 3 GND (power), 4 NC, 5 NC, 6 GND (power), 7 GND (power), 8 IN (power)

## LM2936QM-3.3/NOPB
designator U?
3.3V Ultra-Low Quiescent Current LDO Voltage Regulator, 8-pin Narrow SOIC, Rail; PartNumber: LM2936QM-3.3/NOPB; Manufacturer: National Semiconductor; PackageTopMarking: NSZXTT*LM293*6Q-3.3; PowerWise: N; CompType: LDO IC; High-Reliability: Y; DatasheetVersion: Nov-2010; PackageVersion: revM, May-2009; PackageReference: M08A; PackageDescription: SOIC Narrow, 4.9 x 3.9 x 1.45mm, 8 Lead, 1.27mm Pitch; RoHS: Y; PinCount: 8; Code_JEDEC: MS-012-AA; Code_IPC: SOIC127P600-8; ComponentLink1Description: Manufacturer URL; ComponentLink1URL: http://www.national.com/; ComponentLink2Description: LM2936 Datasheet; ComponentLink2URL: http://www.national.com/ds/LM/LM2936Q.pdf; ComponentLink3Description: LM2936 Web Page; ComponentLink3URL: http://www.national.com/pf/LM/LM2936.html; ComponentLink4Description: M08A Package Page; ComponentLink4URL: http://www.national.com/packaging/folders/m08a.html
footprint M08A_N (SOIC, 8-Leads, Body 4.9x3.9mm, Pitch 1.27mm, IPC Medium Density)
footprint M08A_L (SOIC, 8-Leads, Body 4.9x3.9mm, Pitch 1.27mm, IPC High Density)
footprint M08A_M (SOIC, 8-Leads, Body 4.9x3.9mm, Pitch 1.27mm, IPC Low Density)
pins: 1 OUT (power), 2 GND (power), 3 GND (power), 4 NC, 5 NC, 6 GND (power), 7 GND (power), 8 IN (power)

## LM2936QM-5.0/NOPB
designator U?
5V Ultra-Low Quiescent Current LDO Voltage Regulator, 8-pin Narrow SOIC, Rail; PartNumber: LM2936QM-5.0/NOPB; Manufacturer: National Semiconductor; PackageTopMarking: NSZXTT*LM293*6QM-5; PowerWise: N; CompType: LDO IC; High-Reliability: Y; DatasheetVersion: Nov-2010; PackageVersion: revM, May-2009; PackageReference: M08A; PackageDescription: SOIC Narrow, 4.9 x 3.9 x 1.45mm, 8 Lead, 1.27mm Pitch; RoHS: Y; PinCount: 8; Code_JEDEC: MS-012-AA; Code_IPC: SOIC127P600-8; ComponentLink1Description: Manufacturer URL; ComponentLink1URL: http://www.national.com/; ComponentLink2Description: LM2936 Datasheet; ComponentLink2URL: http://www.national.com/ds/LM/LM2936Q.pdf; ComponentLink3Description: LM2936 Web Page; ComponentLink3URL: http://www.national.com/pf/LM/LM2936.html; ComponentLink4Description: M08A Package Page; ComponentLink4URL: http://www.national.com/packaging/folders/m08a.html
footprint M08A_N (SOIC, 8-Leads, Body 4.9x3.9mm, Pitch 1.27mm, IPC Medium Density)
footprint M08A_L (SOIC, 8-Leads, Body 4.9x3.9mm, Pitch 1.27mm, IPC High Density)
footprint M08A_M (SOIC, 8-Leads, Body 4.9x3.9mm, Pitch 1.27mm, IPC Low Density)
pins: 1 OUT (power), 2 GND (power), 3 GND (power), 4 NC, 5 NC, 6 GND (power), 7 GND (power), 8 IN (power)

## LM2936QMX-3.3/NOPB
designator U?
3.3V Ultra-Low Quiescent Current LDO Voltage Regulator, 8-pin Narrow SOIC, Reel; PartNumber: LM2936QMX-3.3/NOPB; Manufacturer: National Semiconductor; PackageTopMarking: NSZXTT*LM293*6Q-3.3; PowerWise: N; CompType: LDO IC; High-Reliability: Y; DatasheetVersion: Nov-2010; PackageVersion: revM, May-2009; PackageReference: M08A; PackageDescription: SOIC Narrow, 4.9 x 3.9 x 1.45mm, 8 Lead, 1.27mm Pitch; RoHS: Y; PinCount: 8; Code_JEDEC: MS-012-AA; Code_IPC: SOIC127P600-8; ComponentLink1Description: Manufacturer URL; ComponentLink1URL: http://www.national.com/; ComponentLink2Description: LM2936 Datasheet; ComponentLink2URL: http://www.national.com/ds/LM/LM2936Q.pdf; ComponentLink3Description: LM2936 Web Page; ComponentLink3URL: http://www.national.com/pf/LM/LM2936.html; ComponentLink4Description: M08A Package Page; ComponentLink4URL: http://www.national.com/packaging/folders/m08a.html
footprint M08A_N (SOIC, 8-Leads, Body 4.9x3.9mm, Pitch 1.27mm, IPC Medium Density)
footprint M08A_L (SOIC, 8-Leads, Body 4.9x3.9mm, Pitch 1.27mm, IPC High Density)
footprint M08A_M (SOIC, 8-Leads, Body 4.9x3.9mm, Pitch 1.27mm, IPC Low Density)
pins: 1 OUT (power), 2 GND (power), 3 GND (power), 4 NC, 5 NC, 6 GND (power), 7 GND (power), 8 IN (power)

## LM2936QMX-5.0/NOPB
designator U?
5V Ultra-Low Quiescent Current LDO Voltage Regulator, 8-pin Narrow SOIC, Reel; PartNumber: LM2936QMX-5.0/NOPB; Manufacturer: National Semiconductor; PackageTopMarking: NSZXTT*LM293*6QM-5; PowerWise: N; CompType: LDO IC; High-Reliability: Y; DatasheetVersion: Nov-2010; PackageVersion: revM, May-2009; PackageReference: M08A; PackageDescription: SOIC Narrow, 4.9 x 3.9 x 1.45mm, 8 Lead, 1.27mm Pitch; RoHS: Y; PinCount: 8; Code_JEDEC: MS-012-AA; Code_IPC: SOIC127P600-8; ComponentLink1Description: Manufacturer URL; ComponentLink1URL: http://www.national.com/; ComponentLink2Description: LM2936 Datasheet; ComponentLink2URL: http://www.national.com/ds/LM/LM2936Q.pdf; ComponentLink3Description: LM2936 Web Page; ComponentLink3URL: http://www.national.com/pf/LM/LM2936.html; ComponentLink4Description: M08A Package Page; ComponentLink4URL: http://www.national.com/packaging/folders/m08a.html
footprint M08A_N (SOIC, 8-Leads, Body 4.9x3.9mm, Pitch 1.27mm, IPC Medium Density)
footprint M08A_L (SOIC, 8-Leads, Body 4.9x3.9mm, Pitch 1.27mm, IPC High Density)
footprint M08A_M (SOIC, 8-Leads, Body 4.9x3.9mm, Pitch 1.27mm, IPC Low Density)
pins: 1 OUT (power), 2 GND (power), 3 GND (power), 4 NC, 5 NC, 6 GND (power), 7 GND (power), 8 IN (power)

## LM2936Z-3.0
designator U?
Ultra-Low Quiescent Current LDO Voltage Regulator, 3-pin TO-92; PartNumber: LM2936Z-3.0; Manufacturer: National Semiconductor; PackageTopMarking: NSXYTT*LM2936*Z-3; PowerWise: N; CompType: LDO IC; High-Reliability: Y; DatasheetVersion: Oct-2006; PackageVersion: revG, Sep-2000; PackageReference: Z03A; PackageDescription: TO-92, Molded, 3 Lead; RoHS: N; PinCount: 3; Code_JEDEC: TO-226-AA; ComponentLink1Description: Manufacturer URL; ComponentLink1URL: http://www.national.com/; ComponentLink2Description: LM2936 Datasheet; ComponentLink2URL: http://www.national.com/ds/LM/LM2936.pdf; ComponentLink3Description: LM2936 Web Page; ComponentLink3URL: http://www.national.com/pf/LM/LM2936.html; ComponentLink4Description: Z03A Package Page; ComponentLink4URL: http://www.national.com/packaging/folders/z03a.html
footprint Z03A (TO, Flat Index; 3 In-Line, Axial Leads; Body Dia. 5mm; Leads 0.55 x 0.50 mm (max))
pins: 1 OUT (power), 2 GND (power), 3 IN (power)

## LM2936Z-3.0/NOPB
designator U?
Ultra-Low Quiescent Current LDO Voltage Regulator, 3-pin TO-92, Pb-Free; PartNumber: LM2936Z-3.0/NOPB; Manufacturer: National Semiconductor; PackageTopMarking: NSXYTT*LM2936*Z-3; PowerWise: N; CompType: LDO IC; High-Reliability: Y; DatasheetVersion: Oct-2006; PackageVersion: revG, Sep-2000; PackageReference: Z03A; PackageDescription: TO-92, Molded, 3 Lead; RoHS: Y; PinCount: 3; Code_JEDEC: TO-226-AA; ComponentLink1Description: Manufacturer URL; ComponentLink1URL: http://www.national.com/; ComponentLink2Description: LM2936 Datasheet; ComponentLink2URL: http://www.national.com/ds/LM/LM2936.pdf; ComponentLink3Description: LM2936 Web Page; ComponentLink3URL: http://www.national.com/pf/LM/LM2936.html; ComponentLink4Description: Z03A Package Page; ComponentLink4URL: http://www.national.com/packaging/folders/z03a.html
footprint Z03A (TO, Flat Index; 3 In-Line, Axial Leads; Body Dia. 5mm; Leads 0.55 x 0.50 mm (max))
pins: 1 OUT (power), 2 GND (power), 3 IN (power)

## LM2936Z-3.3
designator U?
Ultra-Low Quiescent Current LDO Voltage Regulator, 3-pin TO-92; PartNumber: LM2936Z-3.3; Manufacturer: National Semiconductor; PackageTopMarking: NSXYTT*LM2936*Z-3.3; PowerWise: N; CompType: LDO IC; High-Reliability: Y; DatasheetVersion: Oct-2006; PackageVersion: revG, Sep-2000; PackageReference: Z03A; PackageDescription: TO-92, Molded, 3 Lead; RoHS: N; PinCount: 3; Code_JEDEC: TO-226-AA; ComponentLink1Description: Manufacturer URL; ComponentLink1URL: http://www.national.com/; ComponentLink2Description: LM2936 Datasheet; ComponentLink2URL: http://www.national.com/ds/LM/LM2936.pdf; ComponentLink3Description: LM2936 Web Page; ComponentLink3URL: http://www.national.com/pf/LM/LM2936.html; ComponentLink4Description: Z03A Package Page; ComponentLink4URL: http://www.national.com/packaging/folders/z03a.html
footprint Z03A (TO, Flat Index; 3 In-Line, Axial Leads; Body Dia. 5mm; Leads 0.55 x 0.50 mm (max))
pins: 1 OUT (power), 2 GND (power), 3 IN (power)

## LM2936Z-3.3/NOPB
designator U?
Ultra-Low Quiescent Current LDO Voltage Regulator, 3-pin TO-92, Pb-Free; PartNumber: LM2936Z-3.3/NOPB; Manufacturer: National Semiconductor; PackageTopMarking: NSXYTT*LM2936*Z-3.3; PowerWise: N; CompType: LDO IC; High-Reliability: Y; DatasheetVersion: Oct-2006; PackageVersion: revG, Sep-2000; PackageReference: Z03A; PackageDescription: TO-92, Molded, 3 Lead; RoHS: Y; PinCount: 3; Code_JEDEC: TO-226-AA; ComponentLink1Description: Manufacturer URL; ComponentLink1URL: http://www.national.com/; ComponentLink2Description: LM2936 Datasheet; ComponentLink2URL: http://www.national.com/ds/LM/LM2936.pdf; ComponentLink3Description: LM2936 Web Page; ComponentLink3URL: http://www.national.com/pf/LM/LM2936.html; ComponentLink4Description: Z03A Package Page; ComponentLink4URL: http://www.national.com/packaging/folders/z03a.html
footprint Z03A (TO, Flat Index; 3 In-Line, Axial Leads; Body Dia. 5mm; Leads 0.55 x 0.50 mm (max))
pins: 1 OUT (power), 2 GND (power), 3 IN (power)

## LM2936Z-5.0
designator U?
Ultra-Low Quiescent Current LDO Voltage Regulator, 3-pin TO-92; PartNumber: LM2936Z-5.0; Manufacturer: National Semiconductor; PackageTopMarking: NSXYTT*LM293*6Z-5; PowerWise: N; CompType: LDO IC; High-Reliability: Y; DatasheetVersion: Oct-2006; PackageVersion: revG, Sep-2000; PackageReference: Z03A; PackageDescription: TO-92, Molded, 3 Lead; RoHS: N; PinCount: 3; Code_JEDEC: TO-226-AA; ComponentLink1Description: Manufacturer URL; ComponentLink1URL: http://www.national.com/; ComponentLink2Description: LM2936 Datasheet; ComponentLink2URL: http://www.national.com/ds/LM/LM2936.pdf; ComponentLink3Description: LM2936 Web Page; ComponentLink3URL: http://www.national.com/pf/LM/LM2936.html; ComponentLink4Description: Z03A Package Page; ComponentLink4URL: http://www.national.com/packaging/folders/z03a.html
footprint Z03A (TO, Flat Index; 3 In-Line, Axial Leads; Body Dia. 5mm; Leads 0.55 x 0.50 mm (max))
pins: 1 OUT (power), 2 GND (power), 3 IN (power)

## LM2936Z-5.0/NOPB
designator U?
Ultra-Low Quiescent Current LDO Voltage Regulator, 3-pin TO-92, Pb-Free; PartNumber: LM2936Z-5.0/NOPB; Manufacturer: National Semiconductor; PackageTopMarking: NSXYTT*LM293*6Z-5; PowerWise: N; CompType: LDO IC; High-Reliability: Y; DatasheetVersion: Oct-2006; PackageVersion: revG, Sep-2000; PackageReference: Z03A; PackageDescription: TO-92, Molded, 3 Lead; RoHS: Y; PinCount: 3; Code_JEDEC: TO-226-AA; ComponentLink1Description: Manufacturer URL; ComponentLink1URL: http://www.national.com/; ComponentLink2Description: LM2936 Datasheet; ComponentLink2URL: http://www.national.com/ds/LM/LM2936.pdf; ComponentLink3Description: LM2936 Web Page; ComponentLink3URL: http://www.national.com/pf/LM/LM2936.html; ComponentLink4Description: Z03A Package Page; ComponentLink4URL: http://www.national.com/packaging/folders/z03a.html
footprint Z03A (TO, Flat Index; 3 In-Line, Axial Leads; Body Dia. 5mm; Leads 0.55 x 0.50 mm (max))
pins: 1 OUT (power), 2 GND (power), 3 IN (power)

## LM2937ES-2.5
designator U?
500 mA Low Dropout Regulator, 3-pin TO-263; PartNumber: LM2937ES-2.5; Manufacturer: National Semiconductor; PackageTopMarking: NSUZXYTTE#*LM2937ES*-2.5; PowerWise: N; CompType: LDO IC; High-Reliability: Y; DatasheetVersion: Aug-2005; PackageVersion: revF, Apr-2005; PackageReference: TS3B; PackageDescription: TO-263, Molded, .400 x .390 x .180in, 3 Lead, .1in Pitch, Surface Mount; RoHS: N; PinCount: 3; Code_JEDEC: MO-169-AA; ComponentLink1Description: Manufacturer URL; ComponentLink1URL: http://www.national.com/; ComponentLink2Description: LM2937 Datasheet; ComponentLink2URL: http://www.national.com/ds/LM/LM2937-2.5.pdf; ComponentLink3Description: LM2937 Web Page; ComponentLink3URL: http://www.national.com/pf/LM/LM2937.html; ComponentLink4Description: TS3B Package Page; ComponentLink4URL: http://www.national.com/packaging/folders/ts3b.html
footprint TS3B_N (D2-PAK, 4-Leads, Body 8.6x10.2mm, Pitch 2.54mm, Lead Span 14.2mm, IPC Medium Density)
footprint TS3B_L (D2-PAK, 4-Leads, Body 8.6x10.2mm, Pitch 2.54mm, Lead Span 14.2mm, IPC High Density)
footprint TS3B_M (D2-PAK, 4-Leads, Body 8.6x10.2mm, Pitch 2.54mm, Lead Span 14.2mm, IPC Low Density)
pins: 1 IN (power), 2 GND (power), 3 OUT (power), 4 TAB (power)

## LM2937ES-2.5/NOPB
designator U?
400mA and 500mA Voltage Regulator, 3-pin TO-263, Pb-Free; PartNumber: LM2937ES-2.5/NOPB; Manufacturer: National Semiconductor; PackageTopMarking: NSUZXYTTE#*LM2937ES*-2.5; PowerWise: N; CompType: LDO IC; High-Reliability: Y; DatasheetVersion: Aug-2005; PackageVersion: revF, Apr-2005; PackageReference: TS3B; PackageDescription: TO-263, Molded, .400 x .390 x .180in, 3 Lead, .1in Pitch, Surface Mount; RoHS: Y; PinCount: 3; Code_JEDEC: MO-169-AA; ComponentLink1Description: Manufacturer URL; ComponentLink1URL: http://www.national.com/; ComponentLink2Description: LM2937 Datasheet; ComponentLink2URL: http://www.national.com/ds/LM/LM2937-2.5.pdf; ComponentLink3Description: LM2937 Web Page; ComponentLink3URL: http://www.national.com/pf/LM/LM2937.html; ComponentLink4Description: TS3B Package Page; ComponentLink4URL: http://www.national.com/packaging/folders/ts3b.html
footprint TS3B_N (D2-PAK, 4-Leads, Body 8.6x10.2mm, Pitch 2.54mm, Lead Span 14.2mm, IPC Medium Density)
footprint TS3B_L (D2-PAK, 4-Leads, Body 8.6x10.2mm, Pitch 2.54mm, Lead Span 14.2mm, IPC High Density)
footprint TS3B_M (D2-PAK, 4-Leads, Body 8.6x10.2mm, Pitch 2.54mm, Lead Span 14.2mm, IPC Low Density)
pins: 1 IN (power), 2 GND (power), 3 OUT (power), 4 TAB (power)

## LM2937ES-3.3
designator U?
500 mA Low Dropout Regulator, 3-pin TO-263; PartNumber: LM2937ES-3.3; Manufacturer: National Semiconductor; PackageTopMarking: NSUZXYTTE#*LM2937ES*-3.3; PowerWise: N; CompType: LDO IC; High-Reliability: Y; DatasheetVersion: Aug-2005; PackageVersion: revF, Apr-2005; PackageReference: TS3B; PackageDescription: TO-263, Molded, .400 x .390 x .180in, 3 Lead, .1in Pitch, Surface Mount; RoHS: N; PinCount: 3; Code_JEDEC: MO-169-AA; ComponentLink1Description: Manufacturer URL; ComponentLink1URL: http://www.national.com/; ComponentLink2Description: LM2937 Datasheet; ComponentLink2URL: http://www.national.com/ds/LM/LM2937-3.3.pdf; ComponentLink3Description: LM2937 Web Page; ComponentLink3URL: http://www.national.com/pf/LM/LM2937.html; ComponentLink4Description: TS3B Package Page; ComponentLink4URL: http://www.national.com/packaging/folders/ts3b.html
footprint TS3B_N (D2-PAK, 4-Leads, Body 8.6x10.2mm, Pitch 2.54mm, Lead Span 14.2mm, IPC Medium Density)
footprint TS3B_L (D2-PAK, 4-Leads, Body 8.6x10.2mm, Pitch 2.54mm, Lead Span 14.2mm, IPC High Density)
footprint TS3B_M (D2-PAK, 4-Leads, Body 8.6x10.2mm, Pitch 2.54mm, Lead Span 14.2mm, IPC Low Density)
pins: 1 IN (power), 2 GND (power), 3 OUT (power), 4 TAB (power)

## LM2937ES-3.3/NOPB
designator U?
400mA and 500mA Voltage Regulator, 3-pin TO-263, Pb-Free; PartNumber: LM2937ES-3.3/NOPB; Manufacturer: National Semiconductor; PackageTopMarking: NSUZXYTTE#*LM2937ES*-3.3; PowerWise: N; CompType: LDO IC; High-Reliability: Y; DatasheetVersion: Aug-2005; PackageVersion: revF, Apr-2005; PackageReference: TS3B; PackageDescription: TO-263, Molded, .400 x .390 x .180in, 3 Lead, .1in Pitch, Surface Mount; RoHS: Y; PinCount: 3; Code_JEDEC: MO-169-AA; ComponentLink1Description: Manufacturer URL; ComponentLink1URL: http://www.national.com/; ComponentLink2Description: LM2937 Datasheet; ComponentLink2URL: http://www.national.com/ds/LM/LM2937-3.3.pdf; ComponentLink3Description: LM2937 Web Page; ComponentLink3URL: http://www.national.com/pf/LM/LM2937.html; ComponentLink4Description: TS3B Package Page; ComponentLink4URL: http://www.national.com/packaging/folders/ts3b.html
footprint TS3B_N (D2-PAK, 4-Leads, Body 8.6x10.2mm, Pitch 2.54mm, Lead Span 14.2mm, IPC Medium Density)
footprint TS3B_L (D2-PAK, 4-Leads, Body 8.6x10.2mm, Pitch 2.54mm, Lead Span 14.2mm, IPC High Density)
footprint TS3B_M (D2-PAK, 4-Leads, Body 8.6x10.2mm, Pitch 2.54mm, Lead Span 14.2mm, IPC Low Density)
pins: 1 IN (power), 2 GND (power), 3 OUT (power), 4 TAB (power)

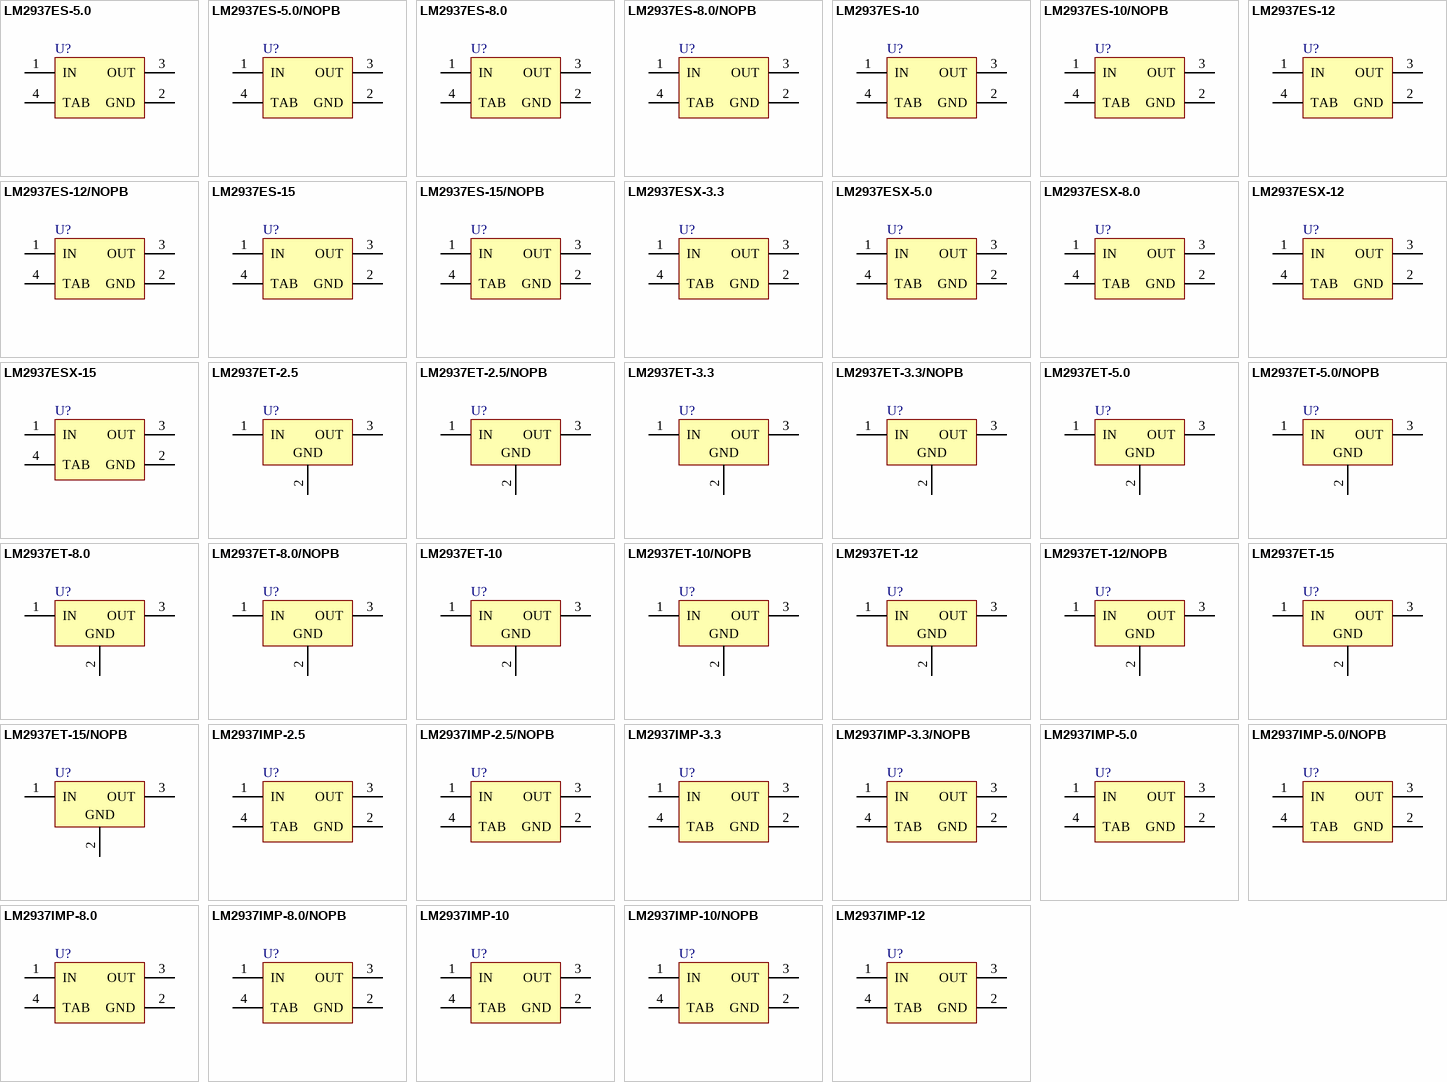
[diagram p11: symbols LM2937ES-5.0 to LM2937IMP-12]

## LM2937ES-5.0
designator U?
500 mA Low Dropout Regulator, 3-pin TO-263; PartNumber: LM2937ES-5.0; Manufacturer: National Semiconductor; PackageTopMarking: NSUZXYTTE#*LM2937ES*-5.0; PowerWise: N; CompType: LDO IC; High-Reliability: Y; DatasheetVersion: Aug-2005; PackageVersion: revF, Apr-2005; PackageReference: TS3B; PackageDescription: TO-263, Molded, .400 x .390 x .180in, 3 Lead, .1in Pitch, Surface Mount; RoHS: N; PinCount: 3; Code_JEDEC: MO-169-AA; ComponentLink1Description: Manufacturer URL; ComponentLink1URL: http://www.national.com/; ComponentLink2Description: LM2937 Datasheet; ComponentLink2URL: http://www.national.com/ds/LM/LM2937.pdf; ComponentLink3Description: LM2937 Web Page; ComponentLink3URL: http://www.national.com/pf/LM/LM2937.html; ComponentLink4Description: TS3B Package Page; ComponentLink4URL: http://www.national.com/packaging/folders/ts3b.html
footprint TS3B_N (D2-PAK, 4-Leads, Body 8.6x10.2mm, Pitch 2.54mm, Lead Span 14.2mm, IPC Medium Density)
footprint TS3B_L (D2-PAK, 4-Leads, Body 8.6x10.2mm, Pitch 2.54mm, Lead Span 14.2mm, IPC High Density)
footprint TS3B_M (D2-PAK, 4-Leads, Body 8.6x10.2mm, Pitch 2.54mm, Lead Span 14.2mm, IPC Low Density)
pins: 1 IN (power), 2 GND (power), 3 OUT (power), 4 TAB (power)

## LM2937ES-5.0/NOPB
designator U?
500 mA Low Dropout Regulator, 3-pin TO-263, Pb-Free; PartNumber: LM2937ES-5.0/NOPB; Manufacturer: National Semiconductor; PackageTopMarking: NSUZXYTTE#*LM2937ES*-5.0; PowerWise: N; CompType: LDO IC; High-Reliability: Y; DatasheetVersion: Aug-2005; PackageVersion: revF, Apr-2005; PackageReference: TS3B; PackageDescription: TO-263, Molded, .400 x .390 x .180in, 3 Lead, .1in Pitch, Surface Mount; RoHS: Y; PinCount: 3; Code_JEDEC: MO-169-AA; ComponentLink1Description: Manufacturer URL; ComponentLink1URL: http://www.national.com/; ComponentLink2Description: LM2937 Datasheet; ComponentLink2URL: http://www.national.com/ds/LM/LM2937.pdf; ComponentLink3Description: LM2937 Web Page; ComponentLink3URL: http://www.national.com/pf/LM/LM2937.html; ComponentLink4Description: TS3B Package Page; ComponentLink4URL: http://www.national.com/packaging/folders/ts3b.html
footprint TS3B_N (D2-PAK, 4-Leads, Body 8.6x10.2mm, Pitch 2.54mm, Lead Span 14.2mm, IPC Medium Density)
footprint TS3B_L (D2-PAK, 4-Leads, Body 8.6x10.2mm, Pitch 2.54mm, Lead Span 14.2mm, IPC High Density)
footprint TS3B_M (D2-PAK, 4-Leads, Body 8.6x10.2mm, Pitch 2.54mm, Lead Span 14.2mm, IPC Low Density)
pins: 1 IN (power), 2 GND (power), 3 OUT (power), 4 TAB (power)